# Altium schematic symbol library Connectors.SchLib: 1 symbol
Pins are listed as number, name and electrical type; pins without a type are passive.

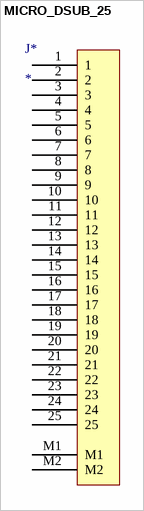
[diagram p0: symbol MICRO_DSUB_25]

## MICRO_DSUB_25
designator J*
Micro D-Sub 25 pin connector
footprint 581-M25-113L461 (CONN MICRO-D MALE 25P RA)
pins: 1, 2, 3, 4, 5, 6, 7, 8, 9, 10, 11, 12, 13, 14, 15, 16, 17, 18, 19, 20, 21, 22, 23, 24, 25, M1, M2